# Altium footprint library Switches.PcbLib: 46 footprints (part 3 of 3)
Each footprint in its own frame and in the unit in brackets; x right, y up, seen from the top. Pads: shape width x height; smd on the part's side, far side on the other; paste and mask are expansions set on the pad; w line width, h text height; cw(c..) or ccw(c..) is an arc to the next point about the centre after c.
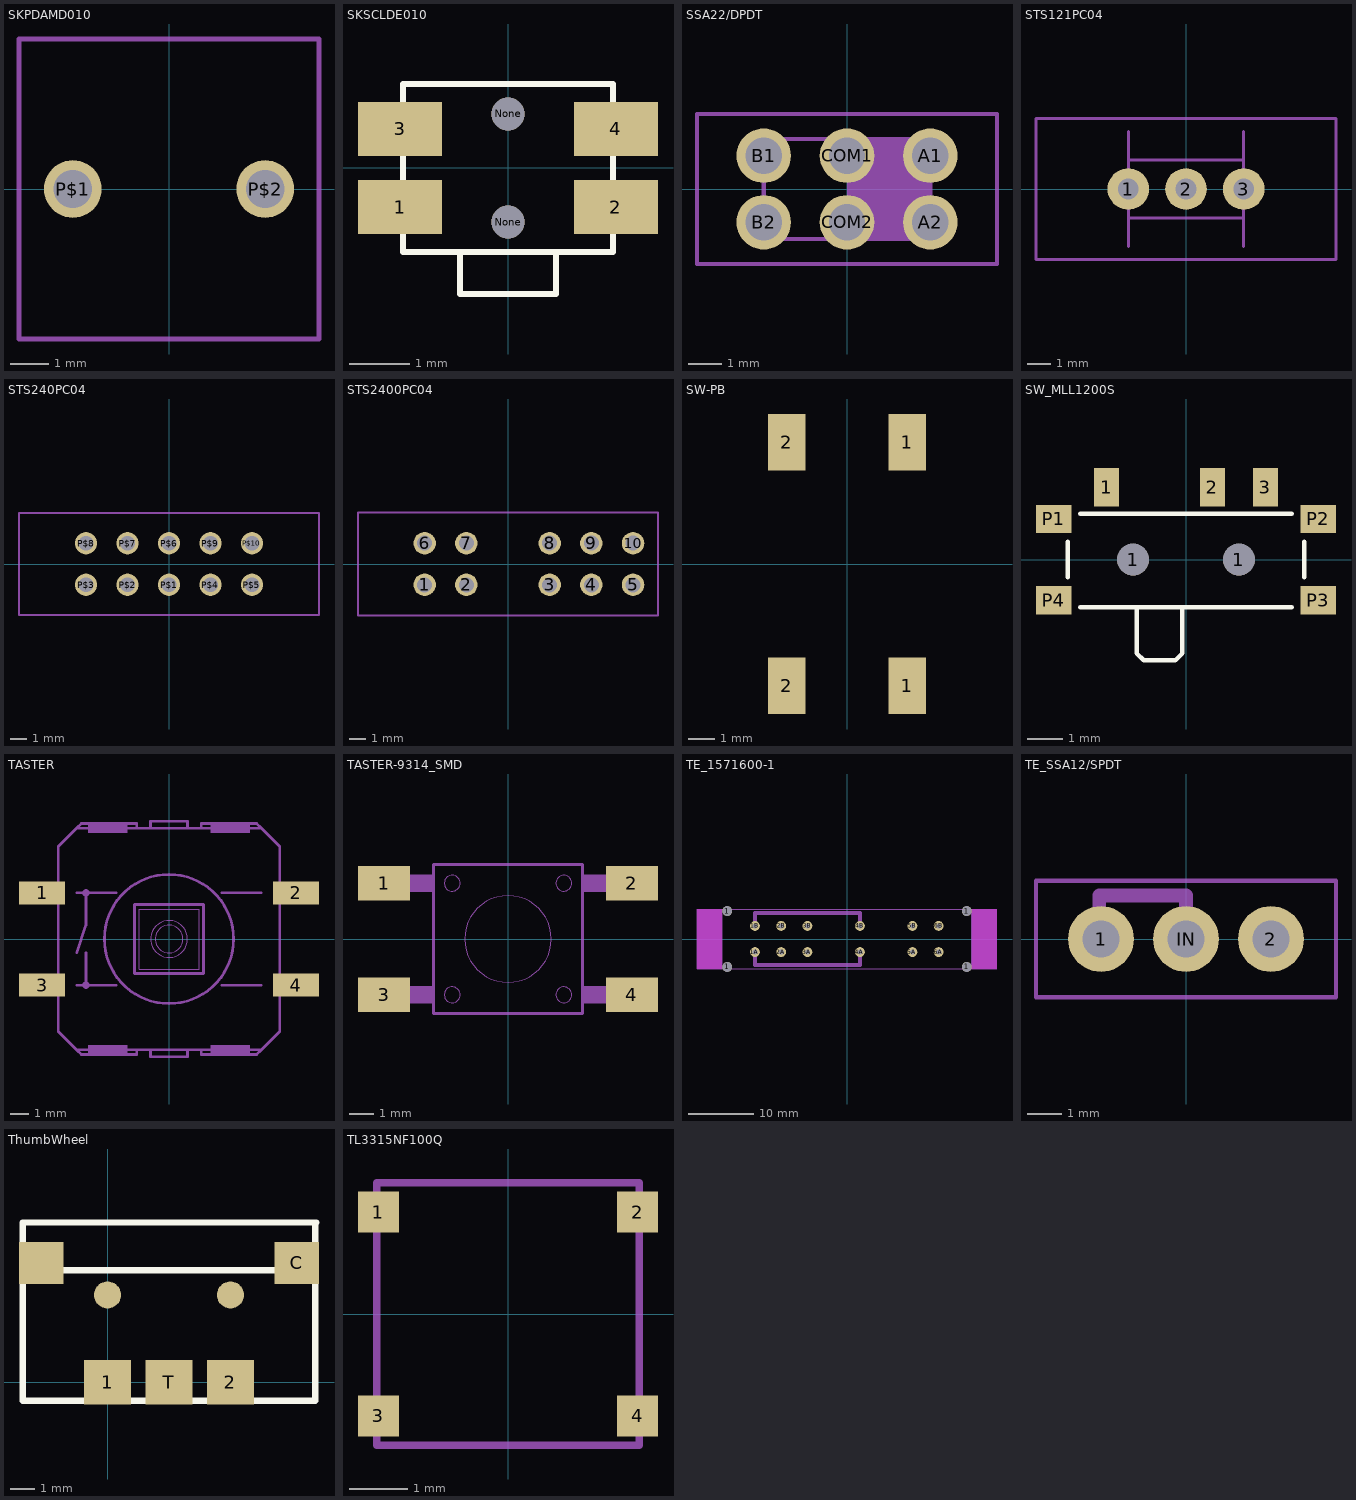
[diagram p2: the footprints below, top view; thin cyan lines are the x and y axes]

## SKPDAMD010 [mm]
pads (2):
  round 1.5 hole 1: P$1(-2.5,0) P$2(2.5,0)
Mechanical 2:
  lines w0.127: -3.9,-3.9 3.9,-3.9 3.9,3.9 -3.9,3.9 -3.9,-3.9

## SKSCLDE010 [mm]
pads (6):
  rect 1.4x0.9 smd: 1(-1.8,-0.65) 2(1.8,-0.65) 3(-1.8,0.65) 4(1.8,0.65)
  round 0.55 hole 0.55 unplated: None(0,-0.9) None(0,0.9)
Top Overlay:
  lines w0.1: -0.8,-1.4 -1.75,-1.4 -1.75,1.4 1.75,1.4 1.75,-1.4 0.8,-1.4 ; -0.8,-1.4 0.8,-1.4 ; -0.8,-1.4 -0.8,-2.1 0.8,-2.1 0.8,-1.4

## SSA22/DPDT [mil]
pads (6):
  round 64.5 hole 43: A1(98.43,39.37) A2(98.43,-39.37) B1(-98.43,39.37) B2(-98.43,-39.37) COM1(0,39.37) COM2(0,-39.37)
Mechanical 2:
  lines w5: -177.17,-88.58 177.17,-88.58 177.17,88.58 -177.17,88.58 -177.17,-88.58
Mechanical 18:
  rectangle: 0,-59.06 98.43,59.06
  lines w5: -98.43,-59.06 -98.43,59.06 98.43,59.06 98.43,-59.06 -98.43,-59.06

## STS121PC04 [mm]
pads (3):
  round 1.8 hole 0.9: 1(-2.5,0) 2(0,0) 3(2.5,0)
Mechanical 2:
  lines w0.127: -6.5,-3.05 6.5,-3.05 6.5,3.05 -6.5,3.05 -6.5,-3.05
Mechanical 18:
  lines w0.127: -2.5,-2.5 -2.5,-1.25 ; -2.5,2.5 -2.5,1.25 ; 2.5,-2.5 2.5,-1.25 ; 2.5,2.5 2.5,1.25 ; -2.5,-1.25 -2.5,1.25 ; -2.5,-1.25 2.5,-1.25 ; -2.5,1.25 2.5,1.25 ; 2.5,-1.25 2.5,1.25

## STS240PC04 [mil]
pads (10):
  round 52.5 hole 35: P$1(0,-49.02) P$2(-98.03,-49.02) P$3(-196.06,-49.02) P$4(98.03,-49.02) P$5(196.06,-49.02) P$6(0,49.02) P$7(-98.03,49.02) P$8(-196.06,49.02) P$9(98.03,49.02) P$10(196.06,49.02)
Mechanical 2:
  lines w5: -354.33,-120.08 354.33,-120.08 354.33,120.08 -354.33,120.08 -354.33,-120.08

## STS2400PC04 [mm]
pads (10):
  round 1.35 hole 0.9: 1(-5,-1.245) 2(-2.5,-1.245) 3(2.5,-1.245) 4(5,-1.245) 5(7.5,-1.245) 6(-5,1.245) 7(-2.5,1.245) 8(2.5,1.245) 9(5,1.245) 10(7.5,1.245)
Mechanical 2:
  lines w0.127: -9,-3.1 -9,3.1 9,3.1 9,-3.1 -9,-3.1

## SW-PB [mm] "PushButton Switch"
pads (4):
  rect 1.4x2.1 smd: 1(2.25,-4.55) 1(2.25,4.55) 2(-2.25,-4.55) 2(-2.25,4.55)
3D body "User Library-Push Button SMD.step": height 5.14, standoff 0.03, extent -2.975,-5.05 3.025,4.95

## SW_MLL1200S [mm]
pads (9):
  rect 0.7x1.1 smd: 1(-2.25,2.05) 2(0.75,2.05) 3(2.25,2.05)
  round 0.9 hole 0.9: 1(-1.5,0) 1(1.5,0)
  rect 1x0.8 smd: P1(-3.75,1.15) P2(3.75,1.15) P3(3.75,-1.15) P4(-3.75,-1.15)
Top Overlay:
  lines w0.127: -3.35,-0.5 -3.35,0.5 ; -3,-1.35 -1.4,-1.35 ; -3,1.3 3,1.3 ; 3,-1.35 -0.1,-1.35 ; 3.35,-0.5 3.35,0.5 ; -1.4,-1.35 -0.1,-1.35 ; -1.4,-1.35 -1.4,-2.65 -1.2,-2.85 -0.3,-2.85 -0.1,-2.65 -0.1,-1.35
3D body "slideswitch.step": height 1.16, standoff -0.5, extent -3.85,-2.8 3.85,2.2

## TASTER [mm]
pads (4):
  rect 2.54x1.27 smd: 1(-6.985,2.54) 2(6.985,2.54) 3(-6.985,-2.54) 4(6.985,-2.54)
Mechanical 2:
  circle w0.152: c0,0 r3.556
  circle w0.051: c0,0 r1.016
  circle w0.051: c0,0 r0.762
  rectangle: 2.286,5.842 4.445,6.35
  rectangle: -4.445,5.842 -2.286,6.35
  rectangle: 2.286,-6.35 4.445,-5.842
  rectangle: -4.445,-6.35 -2.286,-5.842
  lines w0.051: -1.651,-1.651 1.651,-1.651 1.651,1.651 -1.651,1.651 -1.651,-1.651
  lines w0.152: -6.096,-3.81 -6.096,-5.08 -5.08,-6.096 ; -6.096,-1.143 -6.096,1.143 ; -6.096,3.81 -6.096,5.08 -5.08,6.096 ; 6.096,-3.81 6.096,-5.08 5.08,-6.096 ; 6.096,-1.143 6.096,1.143 ; 6.096,3.81 6.096,5.08 5.08,6.096 ; -5.08,-6.096 -1.778,-6.096 ; -5.08,-6.096 -4.826,-6.35 -1.778,-6.35 -1.778,-6.096 ; -5.08,6.096 -1.778,6.096 ; -5.08,6.096 -4.826,6.35 -1.778,6.35 -1.778,6.096 ; -1.778,-6.096 -1.016,-6.096 ; -1.778,6.096 -1.016,6.096 ; -1.016,-6.096 -1.016,-6.477 1.016,-6.477 1.016,-6.096 ; -1.016,-6.096 1.016,-6.096 ; -1.016,6.096 -1.016,6.477 1.016,6.477 1.016,6.096 ; -1.016,6.096 1.016,6.096 ; 1.016,-6.096 1.778,-6.096 ; 1.016,6.096 1.778,6.096 ; 1.778,-6.096 1.778,-6.35 4.826,-6.35 5.08,-6.096 ; 1.778,-6.096 5.08,-6.096 ; 1.778,6.096 5.08,6.096 ; 1.778,6.096 1.778,6.35 4.826,6.35 5.08,6.096 ; -1.905,-1.905 1.905,-1.905 1.905,1.905 -1.905,1.905 -1.905,-1.905
Mechanical 18:
  circle w0.152: c-4.572,2.54 r0.127
  circle w0.152: c-4.572,-2.54 r0.127
  rectangle: 6.096,-2.921 6.604,-2.032
  rectangle: 6.096,2.032 6.604,2.921
  rectangle: -6.604,2.032 -6.096,2.921
  rectangle: -6.604,-2.921 -6.096,-2.032
  lines w0.152: -6.096,-3.81 -6.096,-1.143 ; -6.096,1.143 -6.096,3.81 ; -5.08,-2.54 -4.572,-2.54 ; -5.08,-0.762 -4.572,0.762 -4.572,2.54 ; -5.08,2.54 -4.572,2.54 ; -4.572,-0.762 -4.572,-2.54 ; -2.921,-2.54 -4.572,-2.54 ; -2.921,2.54 -4.572,2.54 ; 2.921,-2.54 5.08,-2.54 ; 2.921,2.54 5.08,2.54 ; 6.096,-3.81 6.096,-1.143 ; 6.096,1.143 6.096,3.81

## TASTER-9314_SMD [mm]
pads (4):
  rect 2.1x1.4 smd: 1(-5,2.25) 2(5,2.25) 3(-5,-2.25) 4(5,-2.25)
Mechanical 2:
  circle w0: c-2.25,2.25 r0.32
  circle w0: c-2.25,-2.25 r0.32
  circle w0: c2.25,-2.25 r0.32
  circle w0: c2.25,2.25 r0.32
  circle w0: c0,0 r1.749
  rectangle: 3,-2.6 5,-1.9
  rectangle: 3,1.9 5,2.6
  rectangle: -5,1.9 -3,2.6
  rectangle: -5,-2.6 -3,-1.9
  lines w0: -3.95,2.25 -3.95,2.3 ; -3.65,-2.25 -3.65,-2.05
  lines w0.127: -3,-3 3,-3 3,3 -3,3 -3,-3

## TE_1571600-1 [mil]
pads (16):
  round 59.06 hole 59.06: 1(-718.5,-167.32) 1(-718.5,167.32) 1(718.5,-167.32) 1(718.5,167.32)
  round 59.06 hole 31.5: 1A(-552.36,-78.74) 1B(-552.36,78.74) 2A(-394.88,-78.74) 2B(-394.88,78.74) 3A(-237.4,-78.74) 3B(-237.4,78.74) 4A(77.56,-78.74) 4B(77.56,78.74) 5A(392.52,-78.74) 5B(392.52,78.74) 6A(550,-78.74) 6B(550,78.74)
Mechanical 2:
  lines w5: -748.03,-179.13 -748.03,179.13 748.03,179.13 748.03,-179.13 -748.03,-179.13
Mechanical 10 keep-out:
  rectangle: 750,-180 900,180
  rectangle: -900,-180 -750,180
Mechanical 18:
  lines w5: -748.03,-179.13 -899.61,-179.13 -899.61,179.13 -748.03,179.13 ; 748.03,-179.13 899.61,-179.13 899.61,179.13 748.03,179.13
  lines w24: -552.36,-78.74 -552.36,-157.48 77.56,-157.48 77.56,-78.74 ; -552.36,78.74 -552.36,157.48 77.56,157.48 77.56,78.74

## TE_SSA12/SPDT [mil]
pads (3):
  round 76 hole 43: 1(-98,0) 2(98,0) IN(0,0)
Mechanical 2:
  lines w5: -173,-67 -173,67 173,67 173,-67 -173,-67
Mechanical 18:
  lines w16: -100,0 -100,50 0,50 0,0

## ThumbWheel [mm]
pads (7):
  rect 1.9x1.8 smd: 1(0,0) 2(5,0) T(2.5,0)
  rect 1.8x1.7 smd: C(7.7,4.85) ""(-2.7,4.85)
  round 1.1 all layers, no hole: ""(0,3.55) ""(5,3.55)
Top Overlay:
  lines w0.254: -3.45,4.55 -3.45,6.5 8.5,6.5 8.45,6.45 8.45,4.55 ; -3.45,4.55 8.45,4.55 ; -3.45,4.55 -3.45,-0.75 8.45,-0.75 8.45,4.55

## TL3315NF100Q [mm]
pads (4):
  rect 0.7x0.7 smd: 1(-2.225,1.75) 2(2.225,1.75) 3(-2.225,-1.75) 4(2.225,-1.75)
Mechanical 2:
  lines w0.127: -2.25,-2.25 -2.25,2.25 2.25,2.25 2.25,-2.25 -2.25,-2.25